# Altium schematic symbol library CAMERON.SchLib: 68 symbols
Pins are listed as number, name and electrical type; pins without a type are passive.

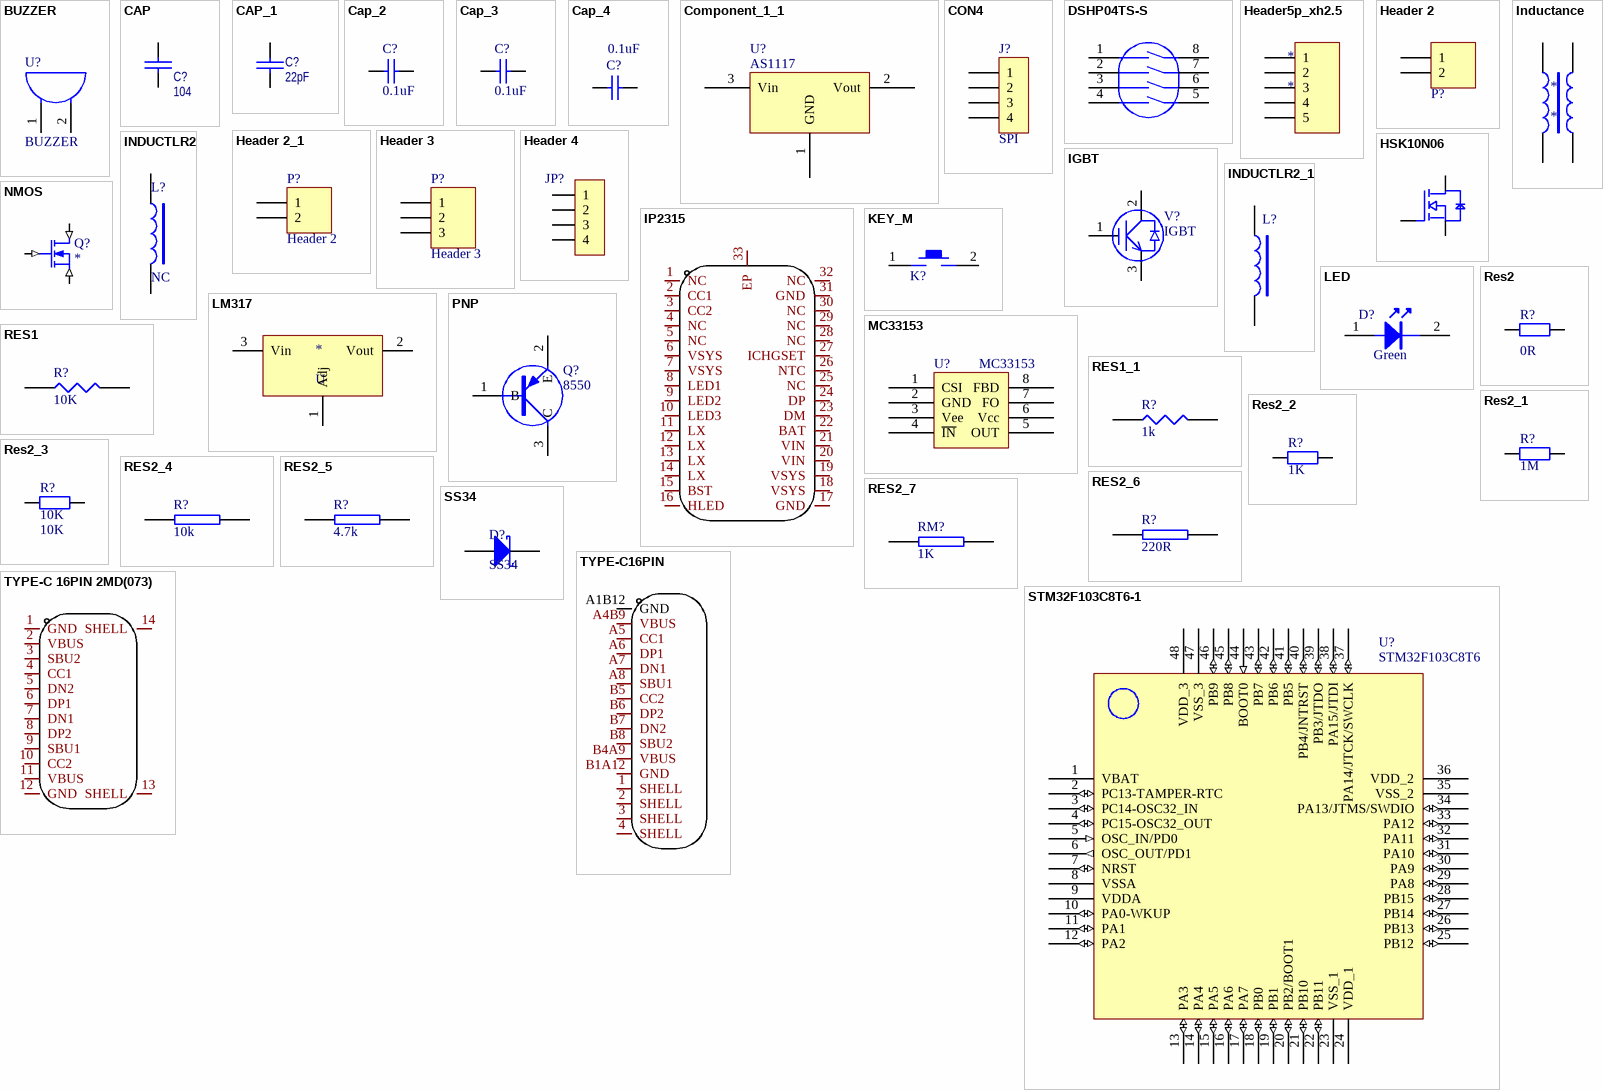
[diagram p0: symbols BUZZER to TYPE-C 16PIN 2MD(073)]

## BUZZER
designator U?
footprint BUZZ-7.6/12 (工制单位)
pins: 1 A, 2 B
2 alternate drawings of the same symbol

## CAP
designator C?, comment 104
Capacitor
footprint 0805C
pins: 1, 2
2 alternate drawings of the same symbol

## CAP_1
designator C?, comment 22pF
Capacitor
footprint 0805C
pins: 1, 2
2 alternate drawings of the same symbol

## Cap_2
designator C?, comment value 0.1uF  (hidden comment: 104P)
Capacitor; Published: 8-Jun-2000; LatestRevisionDate: 17-Jul-2002; LatestRevisionNote: Re-released for DXP Platform.; PackageReference: RAD-0.3; Publisher: Altium Limited; PackageDescription: Radial Cap, Thru-Hole; 2 Leads; 0.3 in Pin Spacing
footprint 0805C
pins: 1, 2
2 alternate drawings of the same symbol

## Cap_3
designator C?, comment value 0.1uF  (hidden comment: Cap)
Capacitor; Published: 8-Jun-2000; LatestRevisionDate: 17-Jul-2002; LatestRevisionNote: Re-released for DXP Platform.; PackageReference: RAD-0.3; Publisher: Altium Limited; PackageDescription: Radial Cap, Thru-Hole; 2 Leads; 0.3 in Pin Spacing
footprint 0805C
pins: 1, 2
2 alternate drawings of the same symbol

## Cap_4
designator C?, comment value 0.1uF  (hidden comment: 470uF/35V)
Capacitor; Published: 8-Jun-2000; LatestRevisionDate: 17-Jul-2002; LatestRevisionNote: Re-released for DXP Platform.; PackageReference: RAD-0.3; Publisher: Altium Limited; PackageDescription: Radial Cap, Thru-Hole; 2 Leads; 0.3 in Pin Spacing
footprint 0805C
pins: 1, 2
2 alternate drawings of the same symbol

## Component_1_1
designator U?, comment AS1117
footprint 811733
footprint SOT_3
pins: 1 GND, 2 Vout, 3 Vin
2 alternate drawings of the same symbol

## CON4
designator J?, comment SPI
Connector
footprint XH-4P-2.5-4DIP (CON250P580W100D50S-4DIP)
pins: 1, 2, 3, 4
2 alternate drawings of the same symbol

## DSHP04TS-S
designator SW?  (value not drawn)
Manufacturer: XKB Connectivity(中国星坤); Add into BOM: yes; Circuit: 单刀单掷; Number of Positions: 4位; Pin Style: 鸥翼型; Current Rating: 25mA; Voltage Rating: 24V; Operating Life: 3千次; Name: DSHP04TS-S; Symbol: DSHP04TS-S; Device: DSHP04TS-S; LCSC Part Name: 间距1.27mm 平拨,凹槽式 4位拨码开关; Supplier Part: C319050; Manufacturer Part: DSHP04TS-S; Supplier Footprint: SMD-8P,5.4x6.7mm; JLCPCB Part Class: Extended Part; Datasheet: https://atta.szlcsc.com/upload/public/pdf/source/20211009/11BE85C99D2C85B0991AF4F9D6EB8BDE.pdf; Supplier: LCSC; Convert to PCB: yes; Type: 平拨,凹槽式; Lead Pitch: 1.27mm; Operating Temperature: -20℃~+70℃; Color: 黑色
footprint SW-SMD_8P-L6.7-W5.4-P1.27-LS8.5
3D model SW-SMD_8P-L6.7-W5.4-P1.27-LS8.5
pins: 1, 2, 3, 4, 5, 6, 7, 8

## Header5p_xh2.5
designator *
pins: 1, 2, 3, 4, 5

## Header 2
designator P?, comment VREF_SEL  (value not drawn)
Header, 2-Pin; LatestRevisionDate: 17-Jul-2002; LatestRevisionNote: Re-released for DXP Platform.; Publisher: Altium Limited
footprint HDR1X2
footprint XH-2P-2.5
pins: 1, 2
2 alternate drawings of the same symbol

## Header 2_1
designator P?, comment Header 2
Header, 2-Pin; LatestRevisionDate: 17-Jul-2002; LatestRevisionNote: Re-released for DXP Platform.; Publisher: Altium Limited
footprint XH-2P-2.5
pins: 1, 2
2 alternate drawings of the same symbol

## Header 3
designator P?
Header, 3-Pin; LatestRevisionDate: 17-Jul-2002; LatestRevisionNote: Re-released for DXP Platform.; Publisher: Altium Limited
footprint XH-3P-2.5
footprint XH-3P-2.5-3DIP
pins: 1, 2, 3
2 alternate drawings of the same symbol

## Header 4
designator JP?, comment HDR-1X4  (value not drawn)
4P接插件; 版权归属: 封装库来自淘宝 ID：黄晶宝石; BOM名称: 4P接插件; 学习资源: https://shop463601444.taobao.com
footprint XH2.54-WI-4P (接插件，4P)
footprint XH2.54-LI-4P (接插件，4P)
footprint HDR2.54-LI-4P (排针，4脚)
footprint HDR2.54-M-LI-4P (排母，4脚)
footprint HDR2.54-WI-4P (弯脚排针，4脚)
footprint HDR2.54-WS-4P (4P卧式贴片排针2.54)
footprint HDR2.54-Y-LI-4P (圆孔排母，4脚)
footprint HDR2.54-M-WS-4P (4P卧式贴片排母2.54)
footprint KF2510-LI-4P (接插件/2A)
footprint XH2.54-WS-4P (长：15mm，宽：8mm，高：6.1mm)
footprint XH2.54-LS-4P (长：15mm，宽：6mm，高：8.3mm)
footprint KF2EDGK-2.54-LI-4P (长：12.06mm，宽：8.1mm，高：10.1mm)
footprint KF2EDGK-2.54-WI-4P (长：12.06mm，宽：10.1mm，高：8.1mm)
pins: 1, 2, 3, 4

## HSK10N06
designator U?  (value not drawn)
Manufacturer: HUASHUO(华朔); Add into BOM: yes; Drain Source Voltage (Vdss): 60V; Continuous Drain Current (Id): 10A; Power Dissipation (Pd): 2W; Drain Source On Resistance (RDS(on)@Vgs,Id): 40mΩ@10V,10A; Gate Threshold Voltage (Vgs(th)@Id): 3V@250uA; Total Gate Charge (Qg@Vgs): 53nC@10V; Input Capacitance (Ciss@Vds): 3.427nF@25V; Reverse Transfer Capacitance (Crss@Vds): 226pF@25V; Symbol: HSK10N06; Device: HSK10N06; LCSC Part Name: 1个N沟道 耐压:60V 电流:10A; Supplier Part: C5128195; Manufacturer Part: HSK10N06; Supplier Footprint: SOT-89; JLCPCB Part Class: 扩展库; Datasheet: https://atta.szlcsc.com/upload/public/pdf/source/20220811/21CEAC6F9E2851314F5CEE4EFC219FCA.pdf; Supplier: LCSC; Convert to PCB: yes; Type: 1个N沟道; Operating Temperature: -55℃~+150℃@(Tj)
footprint SOT-89-3_L4.5-W2.5-P1.50-LS4.2-TR
pins: 1 G, 2 D, 3 S

## IGBT
designator V?
footprint TO-3P
pins: 1 B, 2 C, 3 E
2 alternate drawings of the same symbol

## Inductance
designator *
footprint L-1206C
pins: 1, 2, 3, 4

## INDUCTLR2
designator L?, comment NC
footprint L100
pins: 1, 2
2 alternate drawings of the same symbol

## INDUCTLR2_1
designator L?
footprint L-1206C
pins: 1, 2
2 alternate drawings of the same symbol

## IP2315
designator U?  (value not drawn)
Manufacturer: INJOINIC(英集芯); Add into BOM: yes; Name: IP2315; Symbol: IP2315; Device: IP2315; LCSC Part Name: IP2315; Supplier Part: C2764357; Manufacturer Part: IP2315; Supplier Footprint: QFN-32-EP(5x5); JLCPCB Part Class: Extended Part; Supplier: LCSC; Convert to PCB: yes
footprint QFN-32_L5.0-W5.0-P0.50-BL-EP3.4
3D model QFN-32_L5.0-W5.0-H0.9-P0.50
pins: 1 NC, 2 CC1, 3 CC2, 4 NC, 5 NC, 6 VSYS, 7 VSYS, 8 LED1, 9 LED2, 10 LED3, 11 LX, 12 LX, 13 LX, 14 LX, 15 BST, 16 HLED, 17 GND, 18 VSYS, 19 VSYS, 20 VIN, 21 VIN, 22 BAT, 23 DM, 24 DP, 25 NC, 26 NTC, 27 ICHGSET, 28 NC, 29 NC, 30 NC, 31 GND, 32 NC, 33 EP

## KEY_M
designator K?  (value not drawn)
footprint KEY_M
footprint KEY_2
footprint Key2 (6*6(6.5*4.5))
pins: 1, 2
2 alternate drawings of the same symbol

## LED
designator D?, comment Green
footprint LED-0603 (20100324  贴片0603LED   LSB)
footprint LED-0805 (LED, SMD, 0805)
pins: 1, 2
2 alternate drawings of the same symbol

## LM317
designator *, comment U
footprint SOT_3
pins: 1 Adj, 2 Vout, 3 Vin

## MC33153
designator U?
footprint MC33153(SOIC-8)
footprint SOP-8
pins: 1 CSI, 2 GND, 3 Vee, 4 ~{IN}, 5 OUT, 6 Vcc, 7 FO, 8 FBD
2 alternate drawings of the same symbol

## NMOS
designator Q?
N-Channel MOSFET
simulation model IRFR421 (SUBCKT)
pins: 1 D (in), 2 G (in), 3 S (in)
1 alternate drawing of the same symbol

## PNP
designator Q?, comment 8550
footprint SOT-23 (SOT-23-3)
pins: 1 B, 2 E, 3 C
2 alternate drawings of the same symbol

## RES1
designator R?, comment 10K
footprint 0603
footprint 0805
pins: 1, 2
2 alternate drawings of the same symbol

## RES1_1
designator R?, comment 1k
footprint 0805
pins: 1, 2
2 alternate drawings of the same symbol

## Res2
designator R?, comment 0R
Resistor; Published: 8-Jun-2000; LatestRevisionDate: 17-Jul-2002; LatestRevisionNote: Re-released for DXP Platform.; PackageReference: AXIAL-0.4; Publisher: Altium Limited; PackageDescription: Axial Device, Thru-Hole; 2 Leads; 0.4 in Pin Spacing; Value: 0R
footprint 0805 (3.9mm,长)
footprint AXIAL-0.4
pins: 1, 2
2 alternate drawings of the same symbol

## Res2_1
designator R?, comment value 1M  (hidden comment: Res2)
Resistor; Published: 8-Jun-2000; LatestRevisionDate: 17-Jul-2002; LatestRevisionNote: Re-released for DXP Platform.; PackageReference: AXIAL-0.4; Publisher: Altium Limited; PackageDescription: Axial Device, Thru-Hole; 2 Leads; 0.4 in Pin Spacing
footprint 0805
pins: 1, 2
2 alternate drawings of the same symbol

## Res2_2
designator R?, comment value 1K  (hidden comment: Res2)
Resistor; Published: 8-Jun-2000; LatestRevisionDate: 17-Jul-2002; LatestRevisionNote: Re-released for DXP Platform.; PackageReference: AXIAL-0.4; Publisher: Altium Limited; PackageDescription: Axial Device, Thru-Hole; 2 Leads; 0.4 in Pin Spacing
footprint 0805
pins: 1, 2
2 alternate drawings of the same symbol

## Res2_3
designator R?, comment 10K
Resistor; Published: 8-Jun-2000; LatestRevisionDate: 17-Jul-2002; LatestRevisionNote: Re-released for DXP Platform.; PackageReference: AXIAL-0.4; Publisher: Altium Limited; PackageDescription: Axial Device, Thru-Hole; 2 Leads; 0.4 in Pin Spacing; Value: 10K
footprint 0805
pins: 1, 2
2 alternate drawings of the same symbol

## RES2_4
designator R?, comment 10k
footprint 0805
pins: 1, 2
2 alternate drawings of the same symbol

## RES2_5
designator R?, comment 4.7k
footprint 0805
pins: 1, 2
2 alternate drawings of the same symbol

## RES2_6
designator R?, comment 220R
footprint 0805
pins: 1, 2
2 alternate drawings of the same symbol

## RES2_7
designator RM?, comment 1K
footprint 0805
footprint 0805
pins: 1, 2
2 alternate drawings of the same symbol

## SS34
designator D?
肖特基二极管; 属性: 40V/3A; BOM名称: 肖特基二极管; 封装库来自淘宝 ID：黄晶宝石: https://shop463601444.taobao.com
footprint SMC (7.1x5.9*2.3mm（长宽高，不包括引脚）)
pins: 1 A, 2 K

## STM32F103C8T6-1
designator U?, comment STM32F103C8T6
footprint LQFP-48
pins: 1 VBAT (power), 2 PC13-TAMPER-RTC (io), 3 PC14-OSC32_IN (io), 4 PC15-OSC32_OUT (io), 5 OSC_IN/PD0 (in), 6 OSC_OUT/PD1 (out), 7 NRST (io), 8 VSSA (power), 9 VDDA (power), 10 PA0-WKUP (io), 11 PA1 (io), 12 PA2 (io), 13 PA3 (io), 14 PA4 (io), 15 PA5 (io), 16 PA6 (io), 17 PA7 (io), 18 PB0 (io), 19 PB1 (io), 20 PB2/BOOT1 (io), 21 PB10 (io), 22 PB11 (io), 23 VSS_1 (power), 24 VDD_1 (power), 25 PB12 (io), 26 PB13 (io), 27 PB14 (io), 28 PB15 (io), 29 PA8 (io), 30 PA9 (io), 31 PA10 (io), 32 PA11 (io), 33 PA12 (io), 34 PA13/JTMS/SWDIO (io), 35 VSS_2 (power), 36 VDD_2 (power), 37 PA14/JTCK/SWCLK (io), 38 PA15/JTDI (io), 39 PB3/JTDO (io), 40 PB4/JNTRST (io), 41 PB5 (io), 42 PB6 (io), 43 PB7 (io), 44 BOOT0 (in), 45 PB8 (io), 46 PB9 (io), 47 VSS_3 (power), 48 VDD_3 (power)
2 alternate drawings of the same symbol

## TYPE-C16PIN
designator USB?  (value not drawn)
Manufacturer: SHOU HAN(首韩); Add into BOM: yes; Connector Type: Type-C; Gender: 母; Number of Ports: 1; Number of Contacts: 16P; Current Rating - Power (Max): 3A; Name: TYPE-C16PIN; Symbol: TYPE-C16PIN; Device: TYPE-C16PIN; LCSC Part Name: Type-C 母 卧贴; Supplier Part: C393939; Manufacturer Part: TYPE-C16PIN; Supplier Footprint: SMD; JLCPCB Part Class: Extended Part; Datasheet: https://atta.szlcsc.com/upload/public/pdf/source/20190521/C393939_7B9043D4CF1026AF443AB60D91FBCD5C.pdf; Supplier: LCSC; Convert to PCB: yes; Standard: -; Mounting Style: 卧贴; Operating Temperature Range: -40℃~+85℃
footprint USB-C-SMD_TYPE-C16PIN
3D model USB-C-SMD_TYPE-C16PIN
pins: 1 SHELL, 2 SHELL, 3 SHELL, 4 SHELL, A1B12 GND, A4B9 VBUS, A5 CC1, A6 DP1, A7 DN1, A8 SBU1, B1A12 GND, B4A9 VBUS, B5 CC2, B6 DP2, B7 DN2, B8 SBU2

## TYPE-C 16PIN 2MD(073)
designator USB?  (value not drawn)
Manufacturer: SHOU HAN(首韩); Add into BOM: yes; Gender: 母; Number of Ports: 1; Number of Contacts: 16P; Current Rating - Power (Max): 5A; Name: TYPE-C 16PIN 2MD(073); Symbol: TYPE-C 16PIN 2MD(073); Device: TYPE-C 16PIN 2MD(073); LCSC Part Name: Type-C 母 卧贴; Supplier Part: C2765186; Manufacturer Part: TYPE-C 16PIN 2MD(073); Supplier Footprint: SMD; JLCPCB Part Class: Extended Part; Datasheet: https://atta.szlcsc.com/upload/public/pdf/source/20211123/39B17C16241EAC15C5E277BDA434118E.pdf; Supplier: LCSC; Convert to PCB: yes; Connector Type: Type-C; Standard: -; Mounting Style: 卧贴; Operating Temperature Range: -25℃~+85℃
footprint USB-C-SMD_TYPE-C-6PIN-2MD-073
3D model USB-C-SMD_TYPE-C-6PIN-2MD-073
pins: 1 GND, 2 VBUS, 3 SBU2, 4 CC1, 5 DN2, 6 DP1, 7 DN1, 8 DP2, 9 SBU1, 10 CC2, 11 VBUS, 12 GND, 13 SHELL, 14 SHELL

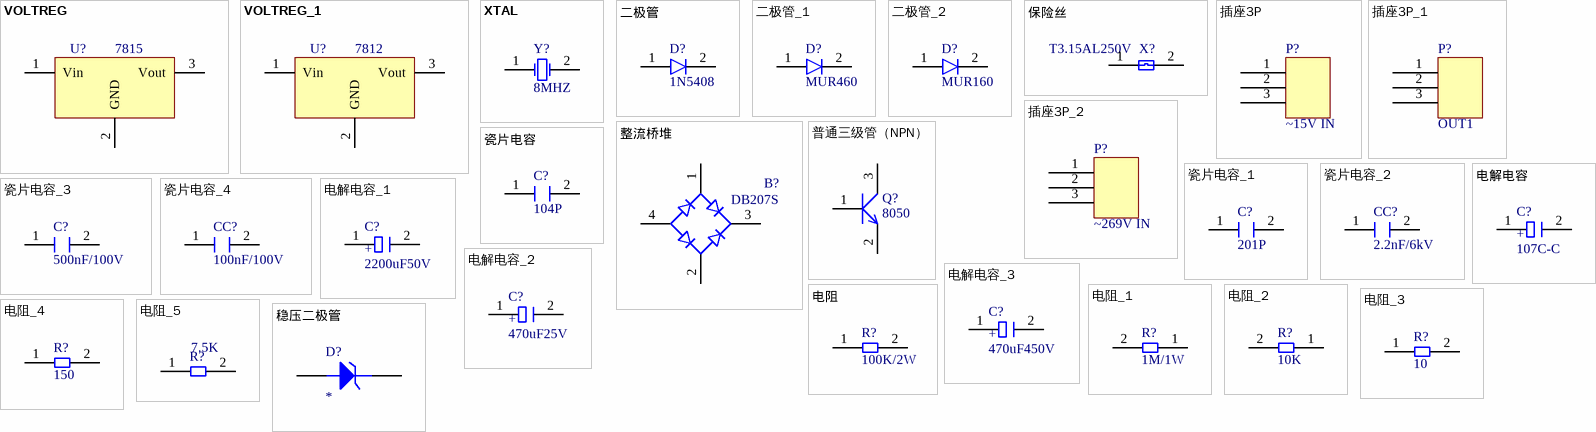
[diagram p1: symbols VOLTREG to 稳压二极管]

## VOLTREG
designator U?, comment 7815
footprint TO220H
footprint TO-126（带散热器）小
pins: 1 Vin, 2 GND, 3 Vout
2 alternate drawings of the same symbol

## VOLTREG_1
designator U?, comment 7812
footprint TO220H
footprint TO-126（带散热器）小
pins: 1 Vin, 2 GND, 3 Vout
2 alternate drawings of the same symbol

## XTAL
designator Y?, comment 8MHZ
Crystal Oscillator; Published: *; LatestRevisionDate: *; LatestRevisionNote: *; PackageReference: *; Publisher: *
footprint XTAL_24M
footprint XTAL2
pins: 1 OSC1, 2 OSC2
2 alternate drawings of the same symbol

## 二极管
designator D?, comment 1N5408
footprint 二极管（1N5404）18MM
footprint 贴片二极管
footprint 二极管（小10mm）
footprint DO-201AD
pins: 1, 2
2 alternate drawings of the same symbol

## 二极管_1
designator D?, comment MUR460
footprint 二极管（1N5404）18MM
footprint 贴片二极管
footprint 二极管（小10mm）
footprint DO-201AD
pins: 1, 2
2 alternate drawings of the same symbol

## 二极管_2
designator D?, comment MUR160
footprint 二极管（大10mm）
footprint 贴片二极管
footprint DO-41
footprint DO-41
pins: 1, 2
2 alternate drawings of the same symbol

## 保险丝
designator X?, comment T3.15AL250V
footprint 保险管座
footprint FUSE (保险管座)
pins: 1, 2
2 alternate drawings of the same symbol

## 插座3P
designator P?, comment ~15V IN
footprint 低压电源插座3P（4mm）
footprint 大插座3P（2.54mm）
footprint 低压电源插座3P（4mm）
footprint 低压电源插座大3P（4mm）
footprint SIP-4-4.0
pins: 1, 2, 3
2 alternate drawings of the same symbol

## 插座3P_1
designator P?, comment OUT1
footprint 低压电源插座3P（4mm）
footprint 大插座3P（2.54mm）
footprint 低压电源插座3P（4mm）
footprint 低压电源插座大3P（4mm）
footprint VH3.96-3Pin
pins: 1, 2, 3
2 alternate drawings of the same symbol

## 插座3P_2
designator P?, comment ~269V IN
footprint 低压电源插座3P（4mm）
footprint 大插座3P（2.54mm）
footprint 低压电源插座3P（4mm）
footprint 低压电源插座大3P（4mm）
footprint VH3.96-3Pin
pins: 1, 2, 3
2 alternate drawings of the same symbol

## 整流桥堆
designator B?, comment DB207S
footprint 贴片整流桥堆
footprint DBS
pins: 1, 2, 3, 4
2 alternate drawings of the same symbol

## 普通三级管（NPN）
designator Q?, comment 8050
footprint SOT23-3
footprint SOT-23 - S8550 (s8550,s8050)
pins: 1 B, 2 E, 3 C
2 alternate drawings of the same symbol

## 瓷片电容
designator C?, comment 104P
footprint 0805C
footprint 涤纶电容（5MM）
pins: 1, 2
2 alternate drawings of the same symbol

## 瓷片电容_1
designator C?, comment 201P
footprint 0805C
footprint 涤纶电容（5MM）
pins: 1, 2
2 alternate drawings of the same symbol

## 瓷片电容_2
designator CC?, comment 2.2nF/6kV
footprint 高压涤纶电容（15mm）
footprint 涤纶电容（5MM）
footprint C104P (涤纶电容)
pins: 1, 2
2 alternate drawings of the same symbol

## 瓷片电容_3
designator C?, comment 500nF/100V
footprint 高压涤纶电容（15mm）
footprint 涤纶电容（5MM）
footprint C104P (涤纶电容)
pins: 1, 2
2 alternate drawings of the same symbol

## 瓷片电容_4
designator CC?, comment 100nF/100V
footprint 高压涤纶电容（15mm）
footprint 涤纶电容（5MM）
footprint C104P (涤纶电容)
pins: 1, 2
2 alternate drawings of the same symbol

## 电解电容
designator C?, comment 107C-C
footprint 贴片钽电容6032-28（C）
footprint 电解电容（12mm）
footprint 电解电容（30mm）
footprint CAP-TANTALUM-C (Tantalum Capacitor Case C, SMD)
pins: 1, 2
2 alternate drawings of the same symbol
text: +

## 电解电容_1
designator C?, comment 2200uF50V
footprint RB7.6-15
footprint 电解电容（12mm）
footprint 电解电容（30mm）
pins: 1, 2
2 alternate drawings of the same symbol
text: +

## 电解电容_2
designator C?, comment 470uF25V
footprint 贴片钽电容6032-28（C）
footprint CD10
footprint 电解电容（30mm）
pins: 1, 2
2 alternate drawings of the same symbol
text: +

## 电解电容_3
designator C?, comment 470uF450V
footprint 电解电容（35mm）
footprint 电解电容（12mm）
footprint 电解电容（30mm）
footprint EC-10-35
pins: 1, 2
2 alternate drawings of the same symbol
text: +

## 电阻
designator R?, comment 100K/2W
footprint 普通电阻（15MM）1W
footprint 普通电阻（10mm）
footprint AXIAL-0.8
pins: 1, 2
2 alternate drawings of the same symbol

## 电阻_1
designator R?, comment 1M/1W
footprint 普通电阻（15MM）1W
footprint 普通电阻（10mm）
footprint AXIAL0.7
pins: 1, 2
2 alternate drawings of the same symbol

## 电阻_2
designator R?, comment 10K
footprint 贴片电阻0805
footprint 普通电阻（10mm）
footprint AXIAL0.7
footprint 0805
pins: 1, 2
2 alternate drawings of the same symbol

## 电阻_3
designator R?, comment 10
footprint 1206
footprint 普通电阻（10mm）
pins: 1, 2
2 alternate drawings of the same symbol

## 电阻_4
designator R?, comment 150
footprint 1206
footprint 普通电阻（10mm）
pins: 1, 2
2 alternate drawings of the same symbol

## 电阻_5
designator R?, comment 7.5K
footprint 0805
footprint 普通电阻（10mm）
pins: 1, 2
2 alternate drawings of the same symbol

## 稳压二极管
designator D?
Zener Diode
pins: 1 A, 2 K